# Altium schematic symbol library SN74HCT273DW.SchLib: 1 symbol
Pins are listed as number, name and electrical type; pins without a type are passive.

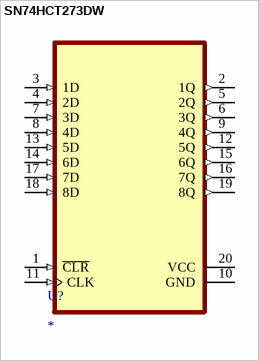
[diagram p0: symbol SN74HCT273DW]

## SN74HCT273DW
designator U?
MF: {'manufacturer': u'Texas Instruments'}; MP: SN74HCT273DW; Availability: Unavailable; Value: *; Package: None; Price: None
footprint SOIC127P1030X265-20N
pins: 1 ~{CLR} (in), 2 1Q (out), 3 1D (in), 4 2D (in), 5 2Q (out), 6 3Q (out), 7 3D (in), 8 4D (in), 9 4Q (out), 10 GND (power), 11 CLK (in), 12 5Q (out), 13 5D (in), 14 6D (in), 15 6Q (out), 16 7Q (out), 17 7D (in), 18 8D (in), 19 8Q (out), 20 VCC (power)